# Altium footprint library USB4135GFA.PcbLib: 1 footprints
Each footprint in its own frame and in the unit in brackets; x right, y up, seen from the top. Pads: shape width x height; smd on the part's side, far side on the other; paste and mask are expansions set on the pad; w line width, h text height; cw(c..) or ccw(c..) is an arc to the next point about the centre after c.
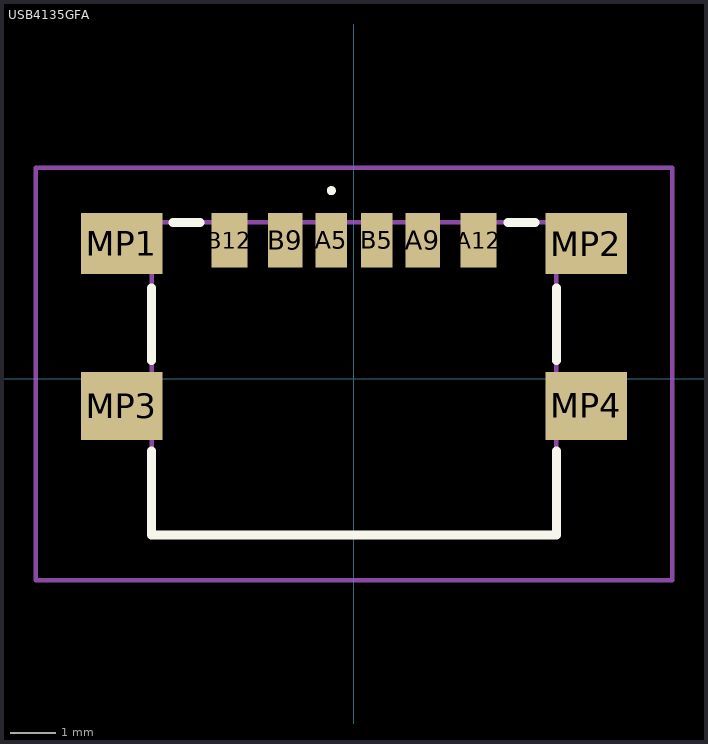
[diagram p0: the footprint, top view; thin cyan lines are the x and y axes]

## USB4135GFA [mm]
pads (10):
  rect 0.7x1.2 smd: A5(-0.5,3.055) B5(0.5,3.055)
  rect 0.76x1.2 smd: A9(1.52,3.055) B9(-1.52,3.055)
  rect 0.8x1.2 smd: A12(2.75,3.055) B12(-2.75,3.055)
  rect 1.8x1.35 smd: MP1(-5.125,2.98) MP2(5.125,2.98)
  rect 1.8x1.5 smd: MP3(-5.125,-0.6) MP4(5.125,-0.6)
Top Overlay:
  lines w0.1: -0.5,4.1 cw(c-0.5,4.15) -0.5,4.2 cw(c-0.5,4.15) -0.5,4.1
  lines w0.2: -4.47,-1.6 -4.47,-3.45 4.47,-3.45 4.47,-1.6 ; -4.47,0.4 -4.47,2 ; -4,3.45 -3.4,3.45 ; 3.4,3.45 4,3.45 ; 4.47,0.4 4.47,2
Mechanical 15:
  lines w0.1: -4.47,-3.45 4.47,-3.45 4.47,3.45 -4.47,3.45 -4.47,-3.45
Mechanical 20:
  lines w0.1: -7.025,-4.45 7.025,-4.45 7.025,4.655 -7.025,4.655 -7.025,-4.45